# EAGLE library part SRM4* (library relay-mod)
Safety Relay SCHRACK 4 pole 8 A Source: http://www.schrack.com/.. 6685.pdf
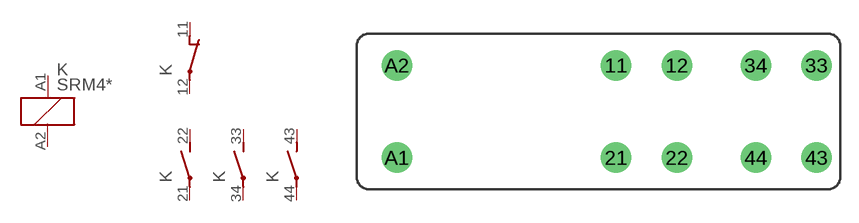
[diagram p137: symbol with the pads of SR4; footprint SR4]

Designator prefix K; gates 1=K 2=O 3=S 4=S 5=S

## SRM4005 (OC_FARNELL: unknown; OC_NEWARK: unknown), SRM4006 (OC_FARNELL: unknown; OC_NEWARK: unknown), SRM4009 (OC_FARNELL: unknown; OC_NEWARK: unknown), SRM4012 (OC_FARNELL: unknown; OC_NEWARK: unknown), SRM4015 (OC_FARNELL: unknown; OC_NEWARK: unknown), SRM4018 (OC_FARNELL: unknown; OC_NEWARK: unknown), SRM4021 (OC_FARNELL: unknown; OC_NEWARK: unknown), SRM4024 (OC_FARNELL: unknown; OC_NEWARK: unknown), SRM4036 (OC_FARNELL: unknown; OC_NEWARK: unknown), SRM4040 (OC_FARNELL: unknown; OC_NEWARK: unknown), SRM4048 (OC_FARNELL: unknown; OC_NEWARK: unknown), SRM4060 (OC_FARNELL: unknown; OC_NEWARK: unknown), SRM4085 (OC_FARNELL: unknown; OC_NEWARK: unknown), SRM4110 (OC_FARNELL: unknown; OC_NEWARK: unknown)  [SR4]
11  2:O  pas
12  2:P  pas
21  3:P  pas
22  3:S  pas
33  4:S  pas
34  4:P  pas
43  5:S  pas
44  5:P  pas
A1  1:1  pas
A2  1:2  pas

## Footprint SR4 (pad centres in mm)
Safety Relay SCHRACK 4 pole 8 A Source: http://www.schrack.com/.. 6685.pdf
drill 1.3 pad 2.5: 11 0,3.8; 12 5,3.8; 21 0,-3.8; 22 5,-3.8; 33 16.5,3.8; 34 11.5,3.8; 43 16.5,-3.8; 44 11.5,-3.8; A1 -18.05,-3.8; A2 -18.05,3.8